# Altium schematic symbol library 2EDGKA-5.0-05P-14-00A(H).SchLib: 1 symbol
Pins are listed as number, name and electrical type; pins without a type are passive.

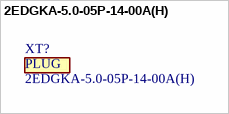
[diagram p0: symbol 2EDGKA-5.0-05P-14-00A(H)]

## 2EDGKA-5.0-05P-14-00A(H)
designator XT?
5 Position Terminal Block Plug; MP: 1792045; SnapEDA_Link: https://www.snapeda.com/parts/284506-2/TE+Connectivity+AMP+Connectors/view-part/?ref=snap; Package: None; Value: *; MF: *
footprint 2EDGKA-5.0-05P-14-00A(H)
text: PLUG